# Altium schematic symbol library TPS6103X.SchLib: 1 symbol
Pins are listed as number, name and electrical type; pins without a type are passive.

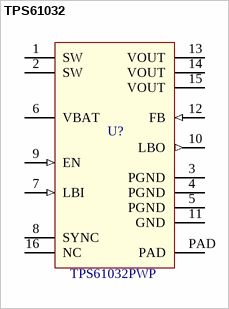
[diagram p0: symbol TPS61032]

## TPS61032
designator U?  value TPS61032PWP  (hidden comment: TPS61032)
Efficient Synchronous Boost Converter With 4A Switch; Manufacturer: Texas Instruments; Mouser link: *
footprint TPS6103XPWP
pins: 1 SW, 2 SW, 3 PGND (power), 4 PGND, 5 PGND, 6 VBAT (power), 7 LBI (in), 8 SYNC, 9 EN (in), 10 LBO (out), 11 GND (power), 12 FB (in), 13 VOUT, 14 VOUT, 15 VOUT, 16 NC, PAD (power)